# Altium schematic symbol library TCA9548A.SchLib: 1 symbol
Pins are listed as number, name and electrical type; pins without a type are passive.

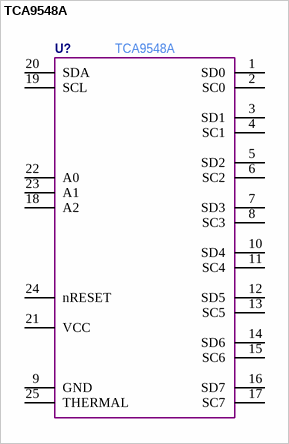
[diagram p0: symbol TCA9548A]

## TCA9548A
designator U?  Manufacturer Part Number: TCA9548A  (hidden comment: *)
pins: 1 SD0, 2 SC0, 3 SD1, 4 SC1, 5 SD2, 6 SC2, 7 SD3, 8 SC3, 9 GND, 10 SD4, 11 SC4, 12 SD5, 13 SC5, 14 SD6, 15 SC6, 16 SD7, 17 SC7, 18 A2, 19 SCL, 20 SDA, 21 VCC, 22 A0, 23 A1, 24 nRESET, 25 THERMAL